# EAGLE library part CN3065 (library OPL5)
USB-Compatible Lithiumt-Ion Battery Charger with Thermal Regulation http://www.consonance-elec.com/pdf/%E6%8A%80%E6%9C%AF%E8%AF%B4%E6%98%8E%E4%B9%A6/DSC-CN3065.pdf
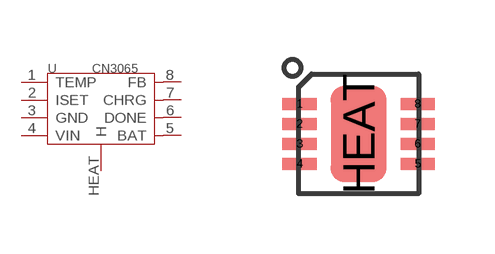
[diagram p6: symbol with the pads of DFN8; footprint DFN8]

Designator prefix U

## CN3065-1320040P1  [DFN8]
1  TEMP  in
2  ISET  in
3  GND  sup
4  VIN  in
5  BAT  in
6  DONE  in
7  CHRG  in
8  FB  in
HEAT  H  in

## Footprint DFN8 (pad centres in mm)
smd 0.854 x 0.3: 1 -1.477,0.75; 2 -1.477,0.25; 3 -1.477,-0.25; 4 -1.477,-0.75; 5 1.477,-0.75; 6 1.477,-0.25; 7 1.477,0.25; 8 1.477,0.75
smd 1.397 x 2.413: HEAT 0,0